# EAGLE library part ESP32-S2-WROOM-I (library Development Boards)
RX TXRX MOD WIFI SURFACE MOUNT Source: Datasheet <https://www.espressif.com/sites/default/files/documentation/esp32-wroom-32_datasheet_en.pdf>
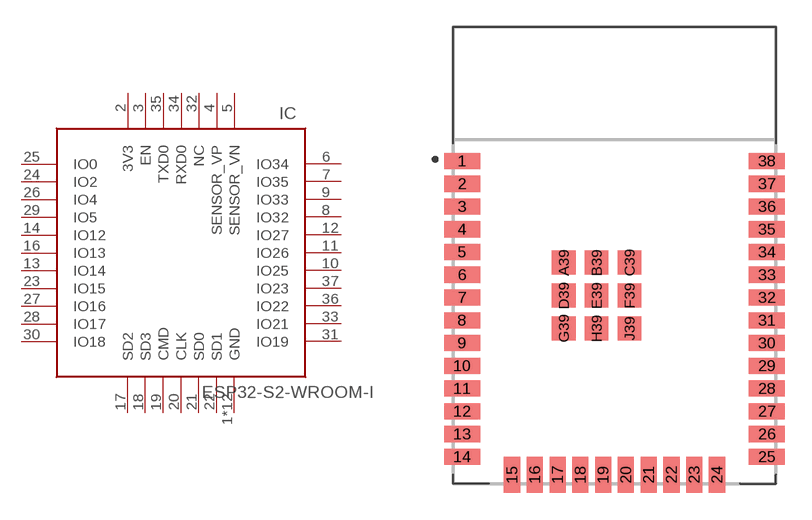
[diagram p9: symbol with the pads of ESP32S2WROOMI; footprint ESP32S2WROOMI]

Designator prefix IC

## ESP32-S2-WROOM-I (DATASHEET: value; DESCRIPTION: RX TXRX MOD WIFI SURFACE MOUNT; DIGIKEY-PART-NUMBER: value; LINK: value; MANUFACTURER: value; MPN: value; TECHNOLOGY: value; UNIT-PRICE: value)  [ESP32S2WROOMI]
1  GND
2  3V3
3  EN
4  SENSOR_VP
5  SENSOR_VN
6  IO34
7  IO35
8  IO32
9  IO33
10  IO25
11  IO26
12  IO27
13  IO14
14  IO12
15  GND
16  IO13
17  SD2
18  SD3
19  CMD
20  CLK
21  SD0
22  SD1
23  IO15
24  IO2
25  IO0
26  IO4
27  IO16
28  IO17
29  IO5
30  IO18
31  IO19
32  NC  nc
33  IO21
34  RXD0
35  TXD0
36  IO22
37  IO23
38  GND
A39  GND
B39  GND
C39  GND
D39  GND
E39  GND
F39  GND
G39  GND
H39  GND
J39  GND

## Footprint ESP32S2WROOMI (pad centres in mm)
ESP32-S2-WROOM-I-5
smd 2 x 0.9: 1 -8.77,7.5; 2 -8.77,6.23; 3 -8.77,4.96; 4 -8.77,3.69; 5 -8.77,2.42; 6 -8.77,1.15; 7 -8.77,-0.12; 8 -8.77,-1.39; 9 -8.77,-2.66; 10 -8.77,-3.93; 11 -8.77,-5.2; 12 -8.77,-6.47; 13 -8.77,-7.74; 14 -8.77,-9.01; 25 8.23,-9.01; 26 8.23,-7.74; 27 8.23,-6.47; 28 8.23,-5.2; 29 8.23,-3.93; 30 8.23,-2.66; 31 8.23,-1.39; 32 8.23,-0.12; 33 8.23,1.15; 34 8.23,2.42; 35 8.23,3.69; 36 8.23,4.96; 37 8.23,6.23; 38 8.23,7.5
smd 0.9 x 2: 15 -5.985,-10.01; 16 -4.715,-10.01; 17 -3.445,-10.01; 18 -2.175,-10.01; 19 -0.905,-10.01; 20 0.365,-10.01; 21 1.635,-10.01; 22 2.905,-10.01; 23 4.175,-10.01; 24 5.445,-10.01
smd 1.33 x 1.33: A39 -3.105,1.835; B39 -1.27,1.835; C39 0.565,1.835; D39 -3.105,0; E39 -1.27,0; F39 0.565,0; G39 -3.105,-1.835; H39 -1.27,-1.835; J39 0.565,-1.835